# Altium footprint library Generic Connector.PcbLib: 143 footprints (part 2 of 9)
Each footprint in its own frame and in the unit in brackets; x right, y up, seen from the top. Pads: shape width x height; smd on the part's side, far side on the other; paste and mask are expansions set on the pad; w line width, h text height; cw(c..) or ccw(c..) is an arc to the next point about the centre after c.
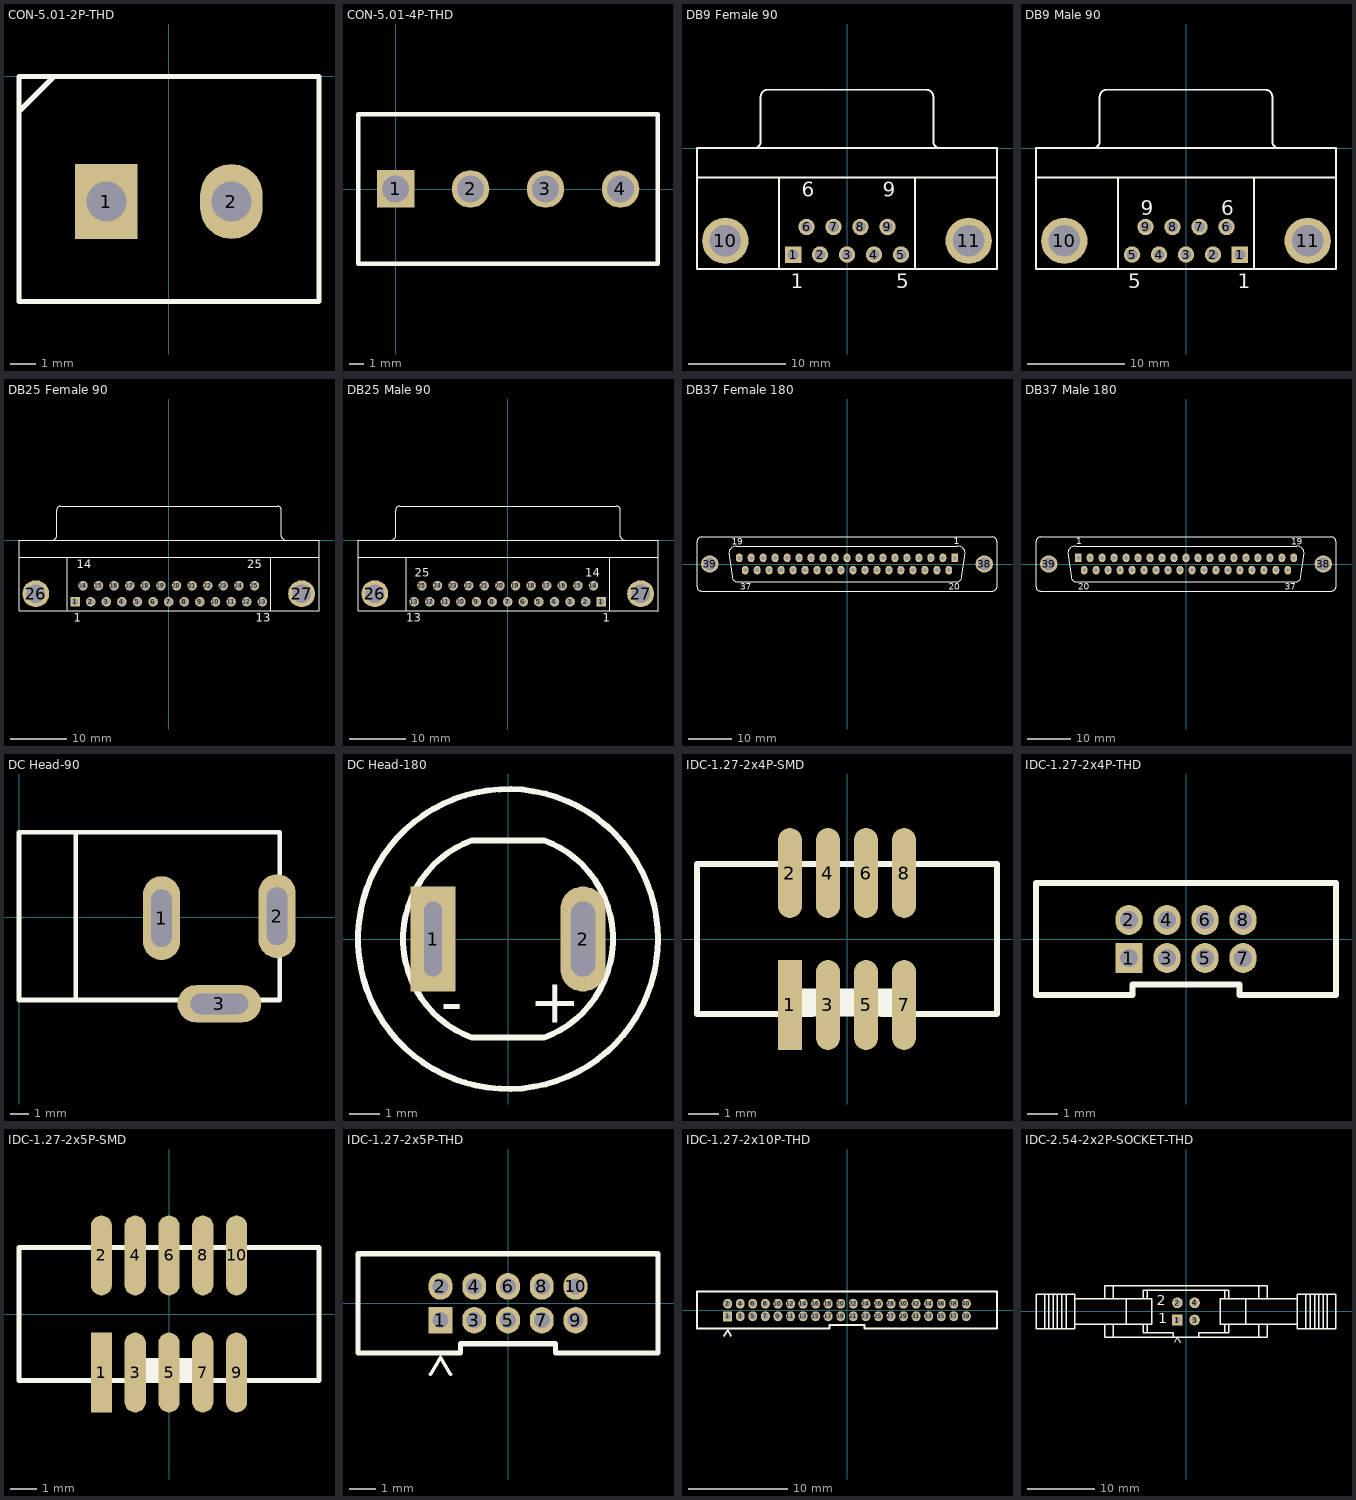
[diagram p1: the footprints below, top view; thin cyan lines are the x and y axes]

## CON-5.01-2P-THD [mm]
pads (2):
  rect 2.5x3 hole 1.6: 1(-2.492,-5.003)
  oval 2.5x3 hole 1.6: 2(2.508,-5.003)
Top Overlay:
  lines w0.2: -5.992,-1.403 -4.592,-0.003 ; -5.992,-9.003 6.008,-9.003 6.008,-0.003 -5.992,-0.003 -5.992,-9.003

## CON-5.01-4P-THD [mm]
pads (4):
  rect 2.54x2.54 hole 1.8: 1(0,0)
  round 2.54 hole 1.8: 2(5.08,0) 3(10.16,0) 4(15.24,0)
Top Overlay:
  lines w0.305: -2.54,-5.08 -2.54,5.08 17.78,5.08 17.78,-5.08 -2.54,-5.08

## DB9 Female 90 [mm] "Connector; D Subminiature; 9 Position; Right Angle; Pitch 1.385 mm"
height 12.75
pads (11):
  rect 1.69x1.69 hole 1.09: 1(-5.54,-10.92)
  round 1.69 hole 1.09: 2(-2.77,-10.92) 3(0,-10.92) 4(2.77,-10.92) 5(5.54,-10.92) 6(-4.155,-8.08) 7(-1.385,-8.08) 8(1.385,-8.08) 9(4.155,-8.08)
  round 4.76 hole 3.26: 10(-12.495,-9.5) 11(12.495,-9.5)
Top Overlay:
  lines w0.2: -15.4,-3 15.4,-3 ; -9.56,0.005 ccw(c-9.56,0.7) -8.865,0.7 -8.865,5.3 ; -8.86,5.305 cw(c-8.165,5.305) -8.165,6 8.165,6 cw(c8.165,5.305) 8.86,5.305 ; -7,-12.4 -7,-3 ; 7,-12.4 7,-3 ; 8.865,5.3 8.865,0.7 ccw(c9.56,0.7) 9.56,0.005 ; -15.4,-12.4 15.4,-12.4 15.4,0 -15.4,0 -15.4,-12.4
  text "6" at -4.655,-4.975 h1.5
  text "9" at 3.655,-4.975 h1.5
  text "5" at 5.04,-14.375 h1.5
  text "1" at -5.79,-14.375 h1.5

## DB9 Male 90 [mm] "Connector; D Subminiature; 9 Position; Right Angle; Pitch 1.385 mm"
height 12.75
pads (11):
  rect 1.69x1.69 hole 1.09: 1(5.54,-10.92)
  round 1.69 hole 1.09: 2(2.77,-10.92) 3(0,-10.92) 4(-2.77,-10.92) 5(-5.54,-10.92) 6(4.155,-8.08) 7(1.385,-8.08) 8(-1.385,-8.08) 9(-4.155,-8.08)
  round 4.76 hole 3.26: 10(-12.495,-9.5) 11(12.495,-9.5)
Top Overlay:
  lines w0.2: -15.4,-3 15.4,-3 ; -9.56,0.005 ccw(c-9.56,0.7) -8.865,0.7 -8.865,5.3 ; -8.86,5.305 cw(c-8.165,5.305) -8.165,6 8.165,6 cw(c8.165,5.305) 8.86,5.305 ; -7,-12.4 -7,-3 ; 7,-12.4 7,-3 ; 8.865,5.3 8.865,0.7 ccw(c9.56,0.7) 9.56,0.005 ; -15.4,-12.4 15.4,-12.4 15.4,0 -15.4,0 -15.4,-12.4
  text "1" at 5.334,-14.375 h1.5
  text "5" at -5.929,-14.375 h1.5
  text "9" at -4.671,-6.88 h1.5
  text "6" at 3.639,-6.88 h1.5

## DB25 Female 90 [mm] "Connector; D Subminiature; 25 Position; Right Angle; Pitch 1.385 mm"
height 12.93
pads (27):
  rect 1.69x1.69 hole 1.09: 1(-16.566,-10.92)
  round 1.69 hole 1.09: 2(-13.805,-10.92) 3(-11.044,-10.92) 4(-8.283,-10.92) 5(-5.522,-10.92) 6(-2.761,-10.92) 7(0,-10.92) 8(2.761,-10.92) 9(5.522,-10.92) 10(8.283,-10.92) 11(11.044,-10.92) 12(13.805,-10.92) 13(16.566,-10.92) 14(-15.185,-8.08) 15(-12.424,-8.08) 16(-9.663,-8.08) 17(-6.902,-8.08) 18(-4.141,-8.08) 19(-1.38,-8.08) 20(1.381,-8.08) 21(4.142,-8.08) 22(6.903,-8.08) 23(9.664,-8.08) 24(12.425,-8.08) 25(15.186,-8.08)
  round 4.76 hole 3.26: 26(-23.526,-9.5) 27(23.526,-9.5)
Top Overlay:
  lines w0.2: -26.496,-3 26.604,-3 ; -20.541,0.005 ccw(c-20.541,0.7) -19.846,0.7 -19.846,5.3 ; -19.841,5.305 cw(c-19.146,5.305) -19.146,6 19.254,6 cw(c19.254,5.305) 19.949,5.305 ; -17.946,-12.5 -17.946,-3 ; 18.054,-12.5 18.054,-3 ; 19.954,5.3 19.954,0.7 ccw(c20.649,0.7) 20.649,0.005 ; -26.496,-12.5 26.604,-12.5 26.604,0 -26.496,0 -26.496,-12.5
  text "1" at -16.816,-14.475 h1.5
  text "13" at 15.441,-14.475 h1.5
  text "14" at -16.31,-4.975 h1.5
  text "25" at 13.936,-4.975 h1.5

## DB25 Male 90 [mm] "Connector; D Subminiature; 25 Position; Right Angle; Pitch 1.385 mm"
height 12.93
pads (27):
  rect 1.69x1.69 hole 1.09: 1(16.566,-10.92)
  round 1.69 hole 1.09: 2(13.805,-10.92) 3(11.044,-10.92) 4(8.283,-10.92) 5(5.522,-10.92) 6(2.761,-10.92) 7(0,-10.92) 8(-2.761,-10.92) 9(-5.522,-10.92) 10(-8.283,-10.92) 11(-11.044,-10.92) 12(-13.805,-10.92) 13(-16.566,-10.92) 14(15.185,-8.08) 15(12.424,-8.08) 16(9.663,-8.08) 17(6.902,-8.08) 18(4.141,-8.08) 19(1.38,-8.08) 20(-1.381,-8.08) 21(-4.142,-8.08) 22(-6.903,-8.08) 23(-9.664,-8.08) 24(-12.425,-8.08) 25(-15.186,-8.08)
  round 4.76 hole 3.26: 26(-23.526,-9.5) 27(23.526,-9.5)
Top Overlay:
  lines w0.2: -26.496,-3 26.604,-3 ; -20.541,0.005 ccw(c-20.541,0.7) -19.846,0.7 -19.846,5.3 ; -19.841,5.305 cw(c-19.146,5.305) -19.146,6 19.254,6 cw(c19.254,5.305) 19.949,5.305 ; -17.946,-12.5 -17.946,-3 ; 18.054,-12.5 18.054,-3 ; 19.954,5.3 19.954,0.7 ccw(c20.649,0.7) 20.649,0.005 ; -26.496,-12.5 26.604,-12.5 26.604,0 -26.496,0 -26.496,-12.5
  text "25" at -16.476,-6.499 h1.5
  text "14" at 13.77,-6.499 h1.5
  text "13" at -17.981,-14.475 h1.5
  text "1" at 16.816,-14.475 h1.5

## DB37 Female 180 [mm]
pads (40):
  rect 1.6x2 hole 0.9: 1(24.93,1.42)
  oval 1.6x2 hole 0.9: 2(22.16,1.42) 3(19.39,1.42) 4(16.62,1.42) 5(13.85,1.42) 6(11.08,1.42) 7(8.31,1.42) 8(5.54,1.42) 9(2.77,1.42) 10(0,1.42) 11(-2.77,1.42) 12(-5.54,1.42) 13(-8.31,1.42) 14(-11.08,1.42) 15(-13.85,1.42) 16(-16.62,1.42) 17(-19.39,1.42) 18(-22.16,1.42) 19(-24.93,1.42) 20(23.545,-1.42) 20(23.545,-1.42) 21(20.775,-1.42) 22(18.005,-1.42) 23(15.235,-1.42) 24(12.465,-1.42) 25(9.695,-1.42) 26(6.925,-1.42) 27(4.155,-1.42) 28(1.385,-1.42) 29(-1.385,-1.42) 30(-4.155,-1.42) 31(-6.925,-1.42) 32(-9.695,-1.42) 33(-12.465,-1.42) 34(-15.235,-1.42) 35(-18.005,-1.42) 36(-20.775,-1.42) 37(-23.545,-1.42)
  round 4 hole 3: 38(31.75,0) 39(-31.75,0)
Top Overlay:
  lines w0.2: 26.924,3.556 ccw(c25.49,2.122) 25.49,4.15 -25.49,4.15 ccw(c-25.49,2.122) -26.924,3.556 -26.939,3.541 ccw(c-26.054,2.657) -27.305,2.657 -26.577,-2.921 ccw(c-25.348,-2.921) -25.348,-4.15 25.348,-4.15 ccw(c25.348,-2.921) 26.577,-2.921 27.305,2.657 ccw(c26.054,2.657) 26.939,3.541 ; -34.7,-5.25 ccw(c-33.7,-5.25) -33.7,-6.25 33.7,-6.25 ccw(c33.7,-5.25) 34.7,-5.25 34.7,5.25 ccw(c33.7,5.25) 33.7,6.25 -33.7,6.25 ccw(c-33.7,5.25) -34.7,5.25 -34.7,-5.25
  text "19" at -26.67,4.445 h1.52
  text "37" at -24.638,-5.969 h1.52
  text "20" at 23.495,-5.969 h1.52
  text "1" at 24.638,4.572 h1.52

## DB37 Male 180 [mm]
pads (40):
  rect 1.6x2 hole 0.9: 1(-24.93,1.42)
  oval 1.6x2 hole 0.9: 2(-22.16,1.42) 3(-19.39,1.42) 4(-16.62,1.42) 5(-13.85,1.42) 6(-11.08,1.42) 7(-8.31,1.42) 8(-5.54,1.42) 9(-2.77,1.42) 10(0,1.42) 11(2.77,1.42) 12(5.54,1.42) 13(8.31,1.42) 14(11.08,1.42) 15(13.85,1.42) 16(16.62,1.42) 17(19.39,1.42) 18(22.16,1.42) 19(24.93,1.42) 20(-23.545,-1.42) 20(-23.545,-1.42) 21(-20.775,-1.42) 22(-18.005,-1.42) 23(-15.235,-1.42) 24(-12.465,-1.42) 25(-9.695,-1.42) 26(-6.925,-1.42) 27(-4.155,-1.42) 28(-1.385,-1.42) 29(1.385,-1.42) 30(4.155,-1.42) 31(6.925,-1.42) 32(9.695,-1.42) 33(12.465,-1.42) 34(15.235,-1.42) 35(18.005,-1.42) 36(20.775,-1.42) 37(23.545,-1.42)
  round 4 hole 3: 38(31.75,0) 39(-31.75,0)
Top Overlay:
  lines w0.2: 26.924,3.556 ccw(c25.49,2.122) 25.49,4.15 -25.49,4.15 ccw(c-25.49,2.122) -26.924,3.556 -26.939,3.541 ccw(c-26.054,2.657) -27.305,2.657 -26.577,-2.921 ccw(c-25.348,-2.921) -25.348,-4.15 25.348,-4.15 ccw(c25.348,-2.921) 26.577,-2.921 27.305,2.657 ccw(c26.054,2.657) 26.939,3.541 ; -34.7,-5.25 ccw(c-33.7,-5.25) -33.7,-6.25 33.7,-6.25 ccw(c33.7,-5.25) 34.7,-5.25 34.7,5.25 ccw(c33.7,5.25) 33.7,6.25 -33.7,6.25 ccw(c-33.7,5.25) -34.7,5.25 -34.7,-5.25
  text "1" at -25.348,4.572 h1.52
  text "20" at -24.892,-5.969 h1.52
  text "19" at 24.384,4.445 h1.52
  text "37" at 22.86,-5.969 h1.52

## DC Head-90 [mm]
pads (3):
  oval 2x4.5 hole 1.1 slot 3.1 at 90 deg: 1(7.65,-0.05) 2(13.85,0.05)
  oval 4.5x2 hole 1.1 slot 3.1 at 0 deg: 3(10.75,-4.65)
Top Overlay:
  lines w0.254: 3.048,-4.45 3.048,4.55 ; 0,-4.45 0,4.55 14,4.55 14,-4.45 0,-4.45

## DC Head-180 [mm]
pads (2):
  rect 1.5x3.5 hole 0.6 slot 2.5 at 90 deg: 1(-2.5,0)
  oval 1.5x3.5 hole 0.8 slot 2.5 at 90 deg: 2(2.5,0)
Top Overlay:
  circle w0.2: c0,0 r5
  lines w0.2: -1.197,-3.289 cw(c0,0) -1.197,3.289 1.197,3.289 cw(c0,0) 1.197,-3.289 -1.197,-3.289
  text "-" at -2.235,-2.819 h1.5
  text "+" at 0.711,-2.794 h1.5

## IDC-1.27-2x4P-SMD [mm]
pads (8):
  rect 0.8x3 smd: 1(-1.905,-2.2)
  oval 0.8x3 smd: 2(-1.905,2.2) 3(-0.635,-2.2) 4(-0.635,2.2) 5(0.635,-2.2) 6(0.635,2.2) 7(1.905,-2.2) 8(1.905,2.2)
Top Overlay:
  rectangle: -1.524,-2.591 1.524,-1.651
  lines w0.2: -1.15,-2.5 -5.005,-2.5 -5.005,2.5 5.005,2.5 5.005,-2.5 1.15,-2.5

## IDC-1.27-2x4P-THD [mm]
pads (8):
  rect 0.9x1 hole 0.6: 1(-1.905,-0.635)
  oval 0.9x1 hole 0.6: 2(-1.905,0.635) 3(-0.635,-0.635) 4(-0.635,0.635) 5(0.635,-0.635) 6(0.635,0.635) 7(1.905,-0.635) 8(1.905,0.635)
Top Overlay:
  lines w0.2: -5.005,-1.865 -1.785,-1.865 -1.785,-1.524 1.785,-1.524 1.785,-1.865 5.005,-1.865 5.005,1.865 -5.005,1.865 -5.005,-1.865

## IDC-1.27-2x5P-SMD [mm]
pads (10):
  rect 0.8x3 smd: 1(-2.54,-2.2)
  oval 0.8x3 smd: 2(-2.54,2.2) 3(-1.27,-2.2) 4(-1.27,2.2) 5(0,-2.2) 6(0,2.2) 7(1.27,-2.2) 8(1.27,2.2) 9(2.54,-2.2) 10(2.54,2.2)
Top Overlay:
  rectangle: -1.524,-2.591 1.524,-1.651
  lines w0.2: -5.64,-2.5 -5.64,2.5 5.64,2.5 5.64,-2.5 -5.64,-2.5

## IDC-1.27-2x5P-THD [mm]
pads (10):
  rect 0.9x1 hole 0.6: 1(-2.54,-0.635)
  oval 0.9x1 hole 0.6: 2(-2.54,0.635) 3(-1.27,-0.635) 4(-1.27,0.635) 5(0,-0.635) 6(0,0.635) 7(1.27,-0.635) 8(1.27,0.635) 9(2.54,-0.635) 10(2.54,0.635)
Top Overlay:
  lines w0.127: -2.921,-2.667 -2.54,-2.032 -2.159,-2.667
  lines w0.2: -5.64,-1.865 -5.64,1.865 5.64,1.865 5.64,-1.865 1.785,-1.865 1.785,-1.524 -1.785,-1.524 -1.785,-1.865 -5.64,-1.865

## IDC-1.27-2x10P-THD [mm]
pads (40):
  rect 0.9x1 hole 0.6: 1(-12.065,-0.635)
  oval 0.9x1 hole 0.6: 2(-12.065,0.635) 3(-10.795,-0.635) 4(-10.795,0.635) 5(-9.525,-0.635) 6(-9.525,0.635) 7(-8.255,-0.635) 8(-8.255,0.635) 9(-6.985,-0.635) 10(-6.985,0.635) 11(-5.715,-0.635) 12(-5.715,0.635) 13(-4.445,-0.635) 14(-4.445,0.635) 15(-3.175,-0.635) 16(-3.175,0.635) 17(-1.905,-0.635) 18(-1.905,0.635) 19(-0.635,-0.635) 20(-0.635,0.635) 21(0.635,-0.635) 22(0.635,0.635) 23(1.905,-0.635) 24(1.905,0.635) 25(3.175,-0.635) 26(3.175,0.635) 27(4.445,-0.635) 28(4.445,0.635) 29(5.715,-0.635) 30(5.715,0.635) 31(6.985,-0.635) 32(6.985,0.635) 33(8.255,-0.635) 34(8.255,0.635) 35(9.525,-0.635) 36(9.525,0.635) 37(10.795,-0.635) 38(10.795,0.635) 39(12.065,-0.635) 40(12.065,0.635)
Top Overlay:
  lines w0.127: -12.446,-2.667 -12.065,-2.032 -11.684,-2.667
  lines w0.2: -15.165,-1.865 -1.785,-1.865 -1.785,-1.524 1.785,-1.524 1.785,-1.865 15.165,-1.865 15.165,1.865 -15.165,1.865 -15.165,-1.865

## IDC-2.54-2x2P-SOCKET-THD [mil]
pads (4):
  rect 62x62 hole 35.43: 1(-50,-50)
  round 62 hole 35.43: 2(-50,50) 3(50,-50) 4(50,50)
Top Overlay:
  lines w5: -65,-180 -50,-155 -35,-180
  lines w7.87: -250,-125 -75,-125 ; 75,-125 250,-125
  lines w8: -825,-100 -825,100 ; -800,-100 -800,100 ; -775,-100 -775,100 ; -750,-100 -750,100 ; -725,-100 -725,100 ; -700,-100 -700,100 ; -650,-75 -250,-75 ; -650,75 -250,75 ; -475,-75 -475,-150 475,-150 475,-75 ; -475,75 -475,150 475,150 475,75 ; -425,-150 -425,-75 ; -425,75 -425,150 ; -350,-75 -350,75 ; -250,-125 -250,-75 ; -225,-125 -225,-75 ; -225,75 -225,125 ; -75,-150 -75,-125 ; 75,-150 75,-125 ; 225,-125 225,-75 ; 225,75 225,125 ; 250,-125 250,-75 ; 350,-75 350,75 ; 425,-150 425,-75 ; 425,75 425,150 ; 650,-75 250,-75 ; 650,75 250,75 ; 700,-100 700,100 ; 725,-100 725,100 ; 750,-100 750,100 ; 775,-100 775,100 ; 800,-100 800,100 ; 825,-100 825,100 ; -250,-75 -200,-75 -200,75 -250,75 ; -250,75 -250,125 250,125 250,75 ; 250,-75 200,-75 200,75 250,75 ; -875,-100 -875,100 -650,100 -650,-100 -875,-100 ; 650,-100 650,100 875,100 875,-100 650,-100
  text "2" at -172,35 h60
  text "1" at -162,-70 h60